# Altium footprint library PX4FMUv2.4.6.PcbLib: 53 footprints (part 4 of 4)
Each footprint in its own frame and in the unit in brackets; x right, y up, seen from the top. Pads: shape width x height; smd on the part's side, far side on the other; paste and mask are expansions set on the pad; w line width, h text height; cw(c..) or ccw(c..) is an arc to the next point about the centre after c.
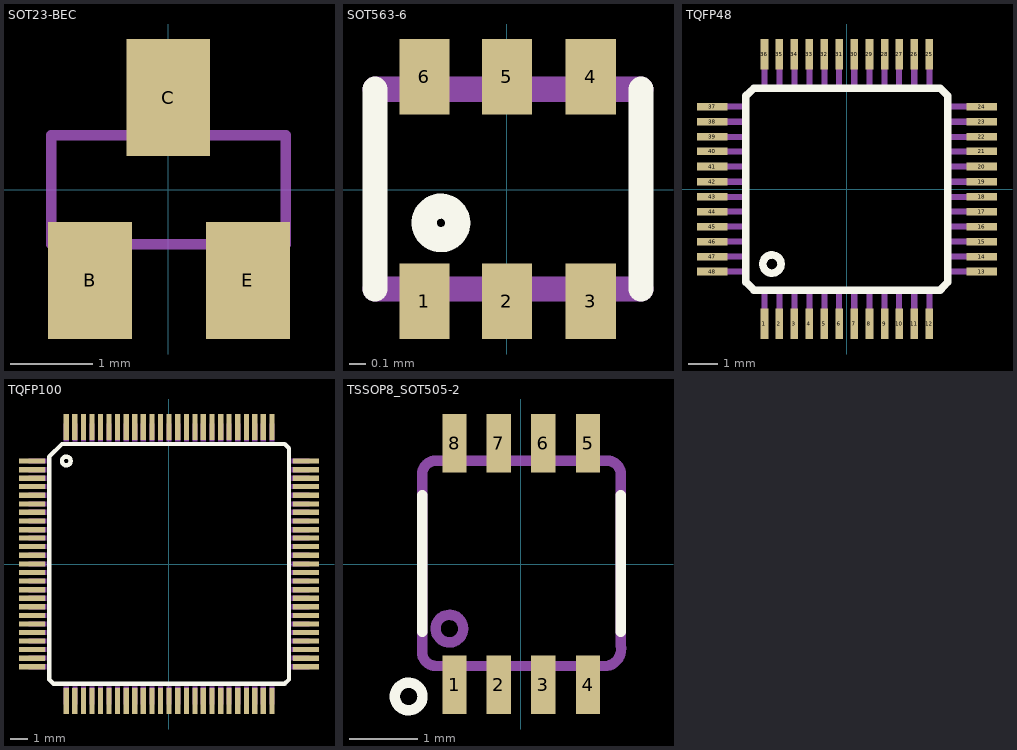
[diagram p3: the footprints below, top view; thin cyan lines are the x and y axes]

## SOT23-BEC [mil] "SOT23-BEC"
pads (3):
  rect 40x56 smd: B(-37.4,-43.31) C(0,44) E(38,-43.31)
Mechanical 16:
  rectangle: -46,-51 -28,-28
  rectangle: 28,-51 46,-28
  rectangle: -9,28 9,51
  lines w5: -56,-26 -56,26 56,26 56,-26 -56,-26

## SOT563-6 [mil] "SOT563-6"
pads (6):
  rect 12x18 smd: 1(-19.68,-26.57) 2(0,-26.57) 3(20,-26.57) 4(20,27) 5(0,27) 6(-19.68,27)
Top Overlay:
  circle w6: c-15.75,-7.87 r4
  lines w6: -31.5,-23.62 -31.5,24 ; 32,-23.62 32,24
Mechanical 16:
  lines w6: -31.5,-23.62 32,-23.62 ; -31.5,24 32,24

## TQFP48 [mil] "TQFP48"
pads (48):
  rect 10x40 smd: 1(-108.27,-177.17) 2(-88.58,-177.17) 3(-68.9,-177.17) 4(-49.21,-177.17) 5(-29.53,-177.17) 6(-9.84,-177.17) 7(10,-177.17) 8(30,-177.17) 9(50,-177.17) 10(69,-177.17) 11(89,-177.17) 12(109,-177.17) 25(109,178) 26(89,178) 27(69,178) 28(50,178) 29(30,178) 30(10,178) 31(-9.84,178) 32(-29.53,178) 33(-49.21,178) 34(-68.9,178) 35(-88.58,178) 36(-108.27,178)
  rect 40x10 smd: 13(178,-108.27) 14(178,-88.58) 15(178,-68.9) 16(178,-49.21) 17(178,-29.53) 18(178,-9.84) 19(178,10) 20(178,30) 21(178,50) 22(178,69) 23(178,89) 24(178,109) 37(-177.17,109) 38(-177.17,89) 39(-177.17,69) 40(-177.17,50) 41(-177.17,30) 42(-177.17,10) 43(-177.17,-9.84) 44(-177.17,-29.53) 45(-177.17,-49.21) 46(-177.17,-68.9) 47(-177.17,-88.58) 48(-177.17,-108.27)
Top Overlay:
  circle w10: c-98.43,-98.43 r12
  lines w10: -132.87,-122.05 -122.05,-132.87 123,-132.87 133,-122.05 133,123 123,133 -122.05,133 -132.87,123 -132.87,-122.05
Mechanical 16:
  rectangle: -112.2,-177.17 -104.33,-135.83
  rectangle: -92.52,-177.17 -84.65,-135.83
  rectangle: -72.83,-177.17 -64.96,-135.83
  rectangle: -53.15,-177.17 -45.28,-135.83
  rectangle: -33.46,-177.17 -25.59,-135.83
  rectangle: -13.78,-177.17 -5.91,-135.83
  rectangle: 6,-177.17 14,-135.83
  rectangle: 26,-177.17 34,-135.83
  rectangle: 46,-177.16 54,-135.83
  rectangle: 65,-177.17 73,-135.83
  rectangle: 85,-177.17 93,-135.83
  rectangle: 105,-177.17 113,-135.83
  rectangle: 136,-112.2 178,-104.33
  rectangle: 136,-92.52 178,-84.65
  rectangle: 136,-72.83 178,-64.96
  rectangle: 136,-53.15 178,-45.28
  rectangle: 136,-33.46 178,-25.59
  rectangle: 136,-13.78 178,-5.91
  rectangle: 136,6 178,14
  rectangle: 136,26 178,34
  rectangle: 136,46 178,54
  rectangle: 136,65 178,73
  rectangle: 136,85 178,93
  rectangle: 136,105 178,113
  rectangle: 105,136 113,178
  rectangle: 85,136 93,178
  rectangle: 65,136 73,178
  rectangle: 46,136 54,178
  rectangle: 26,136 34,178
  rectangle: 6,136 14,178
  rectangle: -13.78,136 -5.91,178
  rectangle: -33.46,136 -25.59,178
  rectangle: -53.15,136 -45.28,178
  rectangle: -72.83,136 -64.96,178
  rectangle: -92.52,136 -84.65,178
  rectangle: -112.2,136 -104.33,178
  rectangle: -177.17,105 -135.83,113
  rectangle: -177.17,85 -135.83,93
  rectangle: -177.16,65 -135.83,73
  rectangle: -177.17,46 -135.83,54
  rectangle: -177.17,26 -135.83,34
  rectangle: -177.17,6 -135.83,14
  rectangle: -177.17,-13.78 -135.83,-5.91
  rectangle: -177.17,-33.46 -135.83,-25.59
  rectangle: -177.17,-53.15 -135.83,-45.27
  rectangle: -177.17,-72.83 -135.83,-64.96
  rectangle: -177.17,-92.52 -135.83,-84.65
  rectangle: -177.17,-112.2 -135.83,-104.33
  lines w1: -133.86,-122.05 -122.05,-133.86 123,-133.86 134,-122.05 134,123 123,134 -122.05,134 -133.86,123 -133.86,-122.05

## TQFP100 [mil] "TQFP100"
pads (100):
  rect 60x12 smd: 1(-314.96,237) 2(-314.96,217) 3(-314.96,197) 4(-314.96,178) 5(-314.96,158) 6(-314.96,138) 7(-314.96,119) 8(-314.96,99) 9(-314.96,79) 10(-314.96,60) 11(-314.96,40) 12(-314.96,20) 13(-314.96,0) 14(-314.96,-19.68) 15(-314.96,-39.37) 16(-314.96,-59.06) 17(-314.96,-78.74) 18(-314.96,-98.43) 19(-314.96,-118.11) 20(-314.96,-137.8) 21(-314.96,-157.48) 22(-314.96,-177.17) 23(-314.96,-196.85) 24(-314.96,-216.54) 25(-314.96,-236.22) 51(315,-236.22) 52(315,-216.54) 53(315,-196.85) 54(315,-177.17) 55(315,-157.48) 56(315,-137.8) 57(315,-118.11) 58(315,-98.43) 59(315,-78.74) 60(315,-59.06) 61(315,-39.37) 62(315,-19.68) 63(315,0) 64(315,20) 65(315,40) 66(315,60) 67(315,79) 68(315,99) 69(315,119) 70(315,138) 71(315,158) 72(315,178) 73(315,197) 74(315,217) 75(315,237)
  rect 12x60 smd: 26(-236.22,-314.96) 27(-216.54,-314.96) 28(-196.85,-314.96) 29(-177.17,-314.96) 30(-157.48,-314.96) 31(-137.8,-314.96) 32(-118.11,-314.96) 33(-98.43,-314.96) 34(-78.74,-314.96) 35(-59.06,-314.96) 36(-39.37,-314.96) 37(-19.68,-314.96) 38(0,-314.96) 39(20,-314.96) 40(40,-314.96) 41(60,-314.96) 42(79,-314.96) 43(99,-314.96) 44(119,-314.96) 45(138,-314.96) 46(158,-314.96) 47(178,-314.96) 48(197,-314.96) 49(217,-314.96) 50(237,-314.96) 76(237,315) 77(217,315) 78(197,315) 79(178,315) 80(158,315) 81(138,315) 82(119,315) 83(99,315) 84(79,315) 85(60,315) 86(40,315) 87(20,315) 88(0,315) 89(-19.68,315) 90(-39.37,315) 91(-59.06,315) 92(-78.74,315) 93(-98.43,315) 94(-118.11,315) 95(-137.8,315) 96(-157.48,315) 97(-177.17,315) 98(-196.85,315) 99(-216.54,315) 100(-236.22,315)
Top Overlay:
  circle w10: c-236.22,237 r10
  lines w10: -275.59,-265.75 -265.75,-275.59 266,-275.59 276,-265.75 276,266 266,276 -246.06,276 -275.59,247 -275.59,-265.75
Mechanical 16:
  rectangle: -322.83,231 -281.5,243
  rectangle: -322.83,211 -281.5,223
  rectangle: -322.83,191 -281.5,203
  rectangle: -322.83,172 -281.5,184
  rectangle: -322.83,152 -281.5,164
  rectangle: -322.83,132 -281.5,144
  rectangle: -322.83,113 -281.5,125
  rectangle: -322.83,93 -281.5,105
  rectangle: -322.83,73 -281.5,85
  rectangle: -322.83,54 -281.5,65
  rectangle: -322.83,34 -281.5,46
  rectangle: -322.83,14 -281.5,26
  rectangle: -322.83,-5.91 -281.5,6
  rectangle: -322.83,-25.59 -281.5,-13.78
  rectangle: -322.83,-45.28 -281.5,-33.46
  rectangle: -322.83,-64.96 -281.5,-53.15
  rectangle: -322.83,-84.65 -281.5,-72.83
  rectangle: -322.83,-104.33 -281.5,-92.52
  rectangle: -322.83,-124.02 -281.5,-112.2
  rectangle: -322.83,-143.7 -281.5,-131.89
  rectangle: -322.83,-163.39 -281.5,-151.57
  rectangle: -322.83,-183.07 -281.5,-171.26
  rectangle: -322.83,-202.76 -281.5,-190.94
  rectangle: -322.83,-222.44 -281.5,-210.63
  rectangle: -322.83,-242.13 -281.5,-230.31
  rectangle: -242.13,-322.83 -230.31,-281.5
  rectangle: -222.44,-322.83 -210.63,-281.5
  rectangle: -202.76,-322.83 -190.94,-281.5
  rectangle: -183.07,-322.83 -171.26,-281.5
  rectangle: -163.39,-322.83 -151.57,-281.5
  rectangle: -143.7,-322.83 -131.89,-281.5
  rectangle: -124.02,-322.83 -112.2,-281.5
  rectangle: -104.33,-322.83 -92.52,-281.5
  rectangle: -84.65,-322.83 -72.83,-281.5
  rectangle: -64.96,-322.83 -53.15,-281.5
  rectangle: -45.28,-322.83 -33.46,-281.5
  rectangle: -25.59,-322.83 -13.78,-281.5
  rectangle: -5.91,-322.83 6,-281.5
  rectangle: 14,-322.83 26,-281.5
  rectangle: 34,-322.83 46,-281.5
  rectangle: 54,-322.83 65,-281.5
  rectangle: 73,-322.83 85,-281.5
  rectangle: 93,-322.83 105,-281.5
  rectangle: 113,-322.83 125,-281.5
  rectangle: 132,-322.83 144,-281.5
  rectangle: 152,-322.83 164,-281.5
  rectangle: 172,-322.83 184,-281.5
  rectangle: 191,-322.83 203,-281.5
  rectangle: 211,-322.83 223,-281.5
  rectangle: 231,-322.83 243,-281.5
  rectangle: 282,-242.13 323,-230.31
  rectangle: 282,-222.44 323,-210.63
  rectangle: 282,-202.76 323,-190.94
  rectangle: 282,-183.07 323,-171.26
  rectangle: 282,-163.39 323,-151.57
  rectangle: 282,-143.7 323,-131.89
  rectangle: 282,-124.02 323,-112.2
  rectangle: 282,-104.33 323,-92.52
  rectangle: 282,-84.65 323,-72.83
  rectangle: 282,-64.96 323,-53.15
  rectangle: 282,-45.28 323,-33.46
  rectangle: 282,-25.59 323,-13.78
  rectangle: 282,-5.91 323,6
  rectangle: 282,14 323,26
  rectangle: 282,34 323,46
  rectangle: 282,54 323,65
  rectangle: 282,73 323,85
  rectangle: 282,93 323,105
  rectangle: 282,113 323,125
  rectangle: 282,132 323,144
  rectangle: 282,152 323,164
  rectangle: 282,172 323,184
  rectangle: 282,191 323,203
  rectangle: 282,211 323,223
  rectangle: 282,231 323,243
  rectangle: 231,282 243,323
  rectangle: 211,282 223,323
  rectangle: 191,282 203,323
  rectangle: 172,282 184,323
  rectangle: 152,282 164,323
  rectangle: 132,282 144,323
  rectangle: 113,282 125,323
  rectangle: 93,282 105,323
  rectangle: 73,282 85,323
  rectangle: 54,282 65,323
  rectangle: 34,282 46,323
  rectangle: 14,282 26,323
  rectangle: -5.91,282 6,323
  rectangle: -25.59,282 -13.78,323
  rectangle: -45.28,282 -33.46,323
  rectangle: -64.96,282 -53.15,323
  rectangle: -84.65,282 -72.83,323
  rectangle: -104.33,282 -92.52,323
  rectangle: -124.02,282 -112.2,323
  rectangle: -143.7,282 -131.89,323
  rectangle: -163.39,282 -151.57,323
  rectangle: -183.07,282 -171.26,323
  rectangle: -202.76,282 -190.94,323
  rectangle: -222.44,282 -210.63,323
  rectangle: -242.13,282 -230.31,323
  lines w1: -275.59,-263.78 -263.78,-275.59 264,-275.59 276,-263.78 276,264 264,276 -248.03,276 -275.59,249 -275.59,-263.78

## TSSOP8_SOT505-2 [mil] "TSSOP8_SOT505-2"
pads (8):
  rect 14x34 smd: 1(-38.39,-69.88) 2(-12.8,-69.88) 3(13,-69.88) 4(39,-69.88) 5(39,70) 6(13,70) 7(-12.8,70) 8(-38.39,70)
Top Overlay:
  circle w6: c-64.96,-76.77 r8
  lines w6: -57.09,-39.37 -57.09,40 ; 58,-39.37 58,40
Mechanical 16:
  circle w6: c-41.34,-37.4 r8
  rectangle: 34,62 44,79
  rectangle: 8,62 18,79
  rectangle: -17.72,62 -7.87,79
  rectangle: -43.31,62 -33.46,79
  rectangle: 34,-78.74 44,-61.02
  rectangle: 8,-78.74 18,-61.02
  rectangle: -17.72,-78.74 -7.87,-61.02
  rectangle: -43.31,-78.74 -33.46,-61.02
  lines w1: -57.09,-53.15 -57.09,54 -51.18,60 52,60 58,54 58,-53.15 52,-59.06 -51.18,-59.06 -57.09,-53.15
  lines w6: -57.09,-51.18 ccw(c-49.21,-51.18) -49.21,-59.06 50,-59.06 ccw(c48.09,-49.15) 58,-47.24 58,52 ccw(c50,52) 50,60 -49.21,60 ccw(c-49.15,52.06) -57.09,52 -57.09,-51.18